# EAGLE library part LM2902 (library my_library)
Low Power Quad Operational Amplifiers
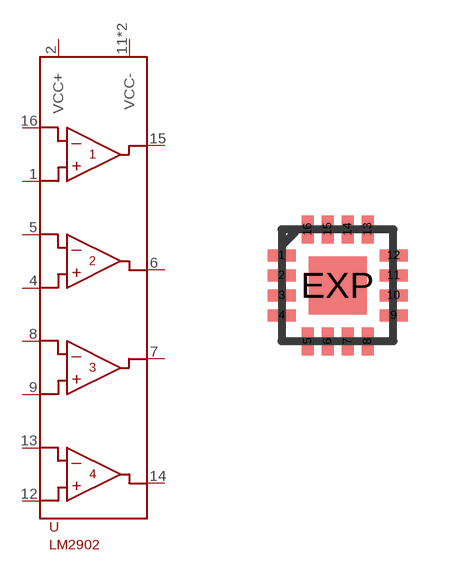
[diagram p2: symbol with the pads of QFN16-3X3; footprint QFN16-3X3]

Designator prefix U

## LM2902  [QFN16-3X3]
1  IN1+
2  VCC+
4  IN2+
5  IN2-
6  OUT2
7  OUT3
8  IN3-
9  IN3+
11  VCC-
12  IN4+
13  IN4-
14  OUT4
15  OUT1
16  IN1-
EXP  VCC-

## Footprint QFN16-3X3 (pad centres in mm)
16-Lead Plastic QFN (3mm × 3mm) Auto generated by make-symbol-device-package-bsdl.ulp Rev. 44 Source: http://cds.linear.com/docs/en/datasheet/3645f.pdf
smd 0.7 x 0.3: 1 -1.4,0.75; 2 -1.4,0.25; 3 -1.4,-0.25; 4 -1.4,-0.75; 9 1.4,-0.75; 10 1.4,-0.25; 11 1.4,0.25; 12 1.4,0.75
smd 0.3 x 0.7: 5 -0.75,-1.4; 6 -0.25,-1.4; 7 0.25,-1.4; 8 0.75,-1.4; 13 0.75,1.4; 14 0.25,1.4; 15 -0.25,1.4; 16 -0.75,1.4
smd 1.45 x 1.45: EXP 0,0